# EAGLE library part TPS561208 (library TPS561208)
TPS561208 5V input 3V3 output Step Down Voltage Regulator
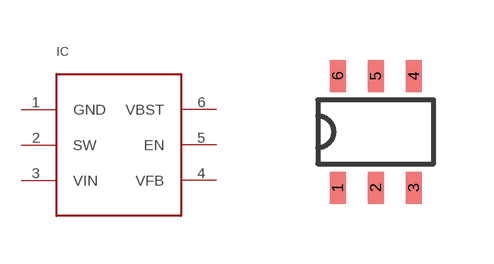
[diagram p0: symbol with the pads of SOT6; footprint SOT6]

Designator prefix IC

## TPS561208  [SOT6]
1  GND
2  SW
3  VIN
4  VFB
5  EN
6  VBST

## Footprint SOT6 (pad centres in mm)
6 Pin SOT-23
smd 0.4 x 0.8: 1 -0.95,-1.4; 2 0,-1.4; 3 0.95,-1.4; 4 0.95,1.4; 5 0,1.4; 6 -0.95,1.4